# EAGLE library part NID35-5 (library dc-dc-converter)
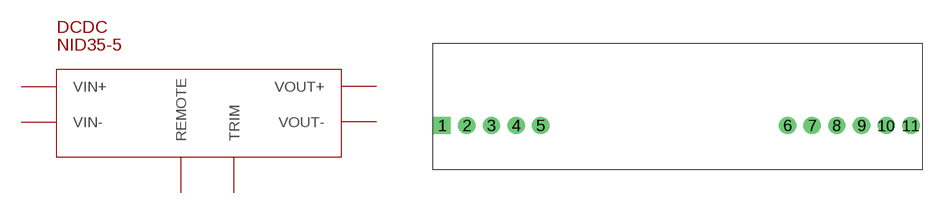
[diagram p11: symbol with the pads of NID35-5; footprint NID35-5]

Designator prefix DCDC

## NID35-5  [NID35-5]
1  VOUT+
2  VOUT+
3  VOUT+
4  VOUT+
5  VIN-
6  VOUT-
7  VIN+
8  VIN+
10  TRIM
11  REMOTE

## Footprint NID35-5 (pad centres in mm)
drill 0.9 pad 1.778 square: 1 0,2.54
drill 0.9 pad 1.778: 2 2.54,2.54; 3 5.08,2.54; 4 7.62,2.54; 5 10.16,2.54; 6 35.56,2.54; 7 38.1,2.54; 8 40.64,2.54; 9 43.18,2.54; 10 45.72,2.54; 11 48.26,2.54